# Altium schematic symbol library LTC4359IMS8#PBF.SchLib: 2 symbols
Pins are listed as number, name and electrical type; pins without a type are passive.

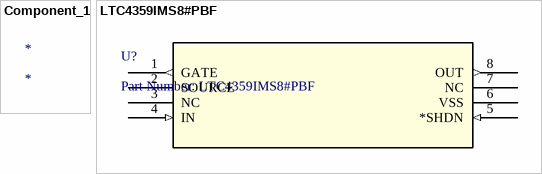
[diagram p0: symbols Component_1 to LTC4359IMS8#PBF]

## Component_1
designator *

## LTC4359IMS8#PBF
designator U?, comment Part Number: LTC4359IMS8#PBF
No Description Available; Vendor: Linear Technology; Built_By: EMA_UL_Team; Manufacturer_Part_Number: LTC4359IMS8#PBF; Copyright: Copyright (C) 2018 Accelerated Designs. All rights reserved; RefDes: RefDes; Type: DEV; Value: Value
footprint MSOP-8_MS
pins: 1 GATE (out), 2 SOURCE, 3 NC, 4 IN (in), 5 *SHDN (in), 6 VSS (power), 7 NC, 8 OUT (out)